# EAGLE library part MOSFET-DUAL-N (library Deegou_Discrete)
Si5902BDC/Si5904DC/Si5908DC/Si5920DC
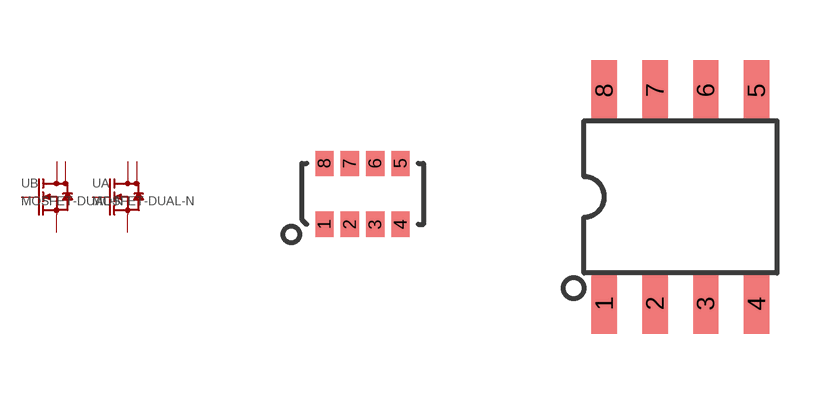
[diagram p4: symbol with the pads of 1206-8; footprints 1206-8, SOP08]

Designator prefix U; gates A=DUAL_N_MOS B=DUAL_N_MOS

## MOSFET-DUAL-N-1206-8  [1206-8]
1  A:S  pas
2  A:G  pas
3  B:S  pas
4  B:G  pas
5  B:D  pas
6  B:D  pas
7  A:D  pas
8  A:D  pas

## MOSFET-DUAL-N-SOP08  [SOP08]
Pads as for 1206-8

## Footprint 1206-8 (pad centres in mm)
vishay dual mosfet or single mosfet http://www.vishay.com/mosfets/chipfet-package/
smd 0.457 x 0.635: 1 -0.953,-0.762; 2 -0.318,-0.762; 3 0.318,-0.762; 4 0.953,-0.762; 5 0.953,0.762; 6 0.318,0.762; 7 -0.318,0.762; 8 -0.953,0.762

## Footprint SOP08 (pad centres in mm)
SMALL OUTLINE PACKAGE
smd 0.635 x 1.524: 1 -1.905,-2.667; 2 -0.635,-2.667; 3 0.635,-2.667; 4 1.905,-2.667; 5 1.905,2.667; 6 0.635,2.667; 7 -0.635,2.667; 8 -1.905,2.667